# EAGLE library part MC34063A (library okamoto)
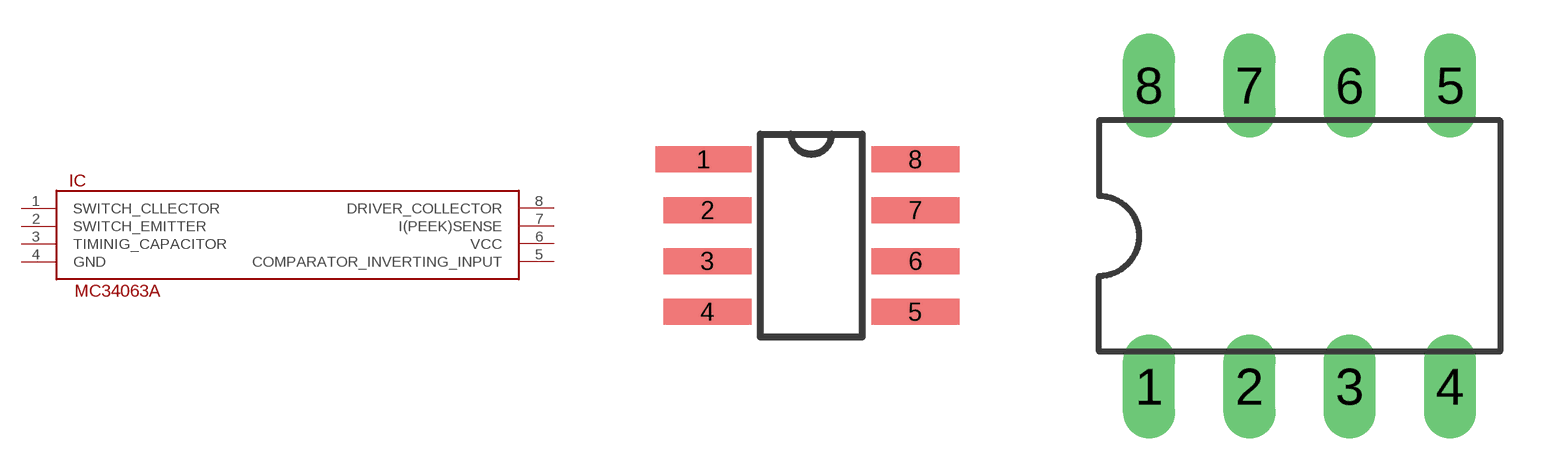
[diagram p23: symbol with the pads of SOIC-8; footprints SOIC-8, DIL08]

Designator prefix IC

## MC34063A  [SOIC-8]
1  SWITCH_CLLECTOR  oc
2  SWITCH_EMITTER  out
3  TIMINIG_CAPACITOR  pas
4  GND  pwr
5  COMPARATOR_INVERTING_INPUT  pas
6  VCC  pwr
7  I(PEEK)SENSE  in
8  DRIVER_COLLECTOR  out

## MC34063ADIP  [DIL08]
Pads as for SOIC-8

## Footprint SOIC-8 (pad centres in mm)
smd 2.4 x 0.65: 1 -2.7,1.905
smd 2.2 x 0.65: 2 -2.6,0.635; 3 -2.6,-0.635; 4 -2.6,-1.905; 5 2.6,-1.905; 6 2.6,-0.635; 7 2.6,0.635; 8 2.6,1.905

## Footprint DIL08 (pad centres in mm)
Dual In Line Package
drill 0.813 long: 1 -3.81,-3.81; 2 -1.27,-3.81; 3 1.27,-3.81; 4 3.81,-3.81; 5 3.81,3.81; 6 1.27,3.81; 7 -1.27,3.81; 8 -3.81,3.81